# EAGLE library part LTC6269MS8E (library EW_IC_Op_Amps)
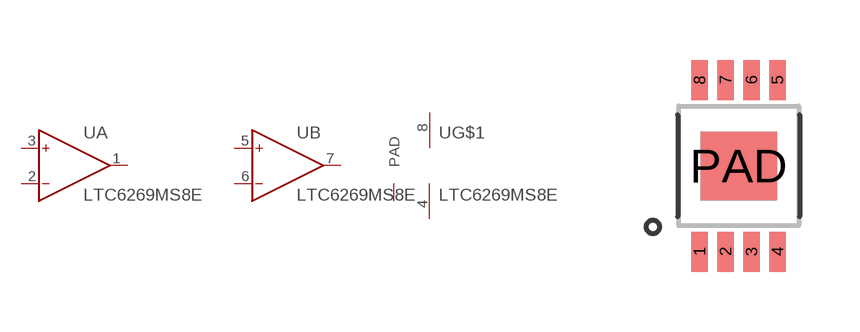
[diagram p1: symbol with the pads of MS8E; footprint MS8E]

Designator prefix U; gates A=OP B=OP G$1=PWR+-_PAD

## LTC6269MS8E  [MS8E]
1  A:OUT  out
2  A:IN-  in
3  A:IN+  in
4  G$1:V-  pwr
5  B:IN+  in
6  B:IN-  in
7  B:OUT  out
8  G$1:V+  pwr
PAD  G$1:PAD

## Footprint MS8E (pad centres in mm)
smd 0.42 x 1: 1 -0.975,-2.15; 2 -0.325,-2.15; 3 0.325,-2.15; 4 0.975,-2.15; 5 0.975,2.15; 6 0.325,2.15; 7 -0.325,2.15; 8 -0.975,2.15
smd 1.9 x 1.7: PAD 0,0